# Altium integrated library 08055A470JAT2A.IntLib: 1 symbol
Pins are listed as number, name and electrical type; pins without a type are passive.

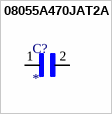
[diagram p0: symbol 08055A470JAT2A]

## 08055A470JAT2A
designator C?
Capacitor: ceramic; 47pF; 50V; C0G; Â±5%; SMD; Case (inch):0805; MP: 08055A470JAT2A; Package: None; Price: None; Value: *; Availability: Unavailable
footprint CAPC2012X94N
pins: 1, 2